# EAGLE library part NJM064M (library NJM064M)
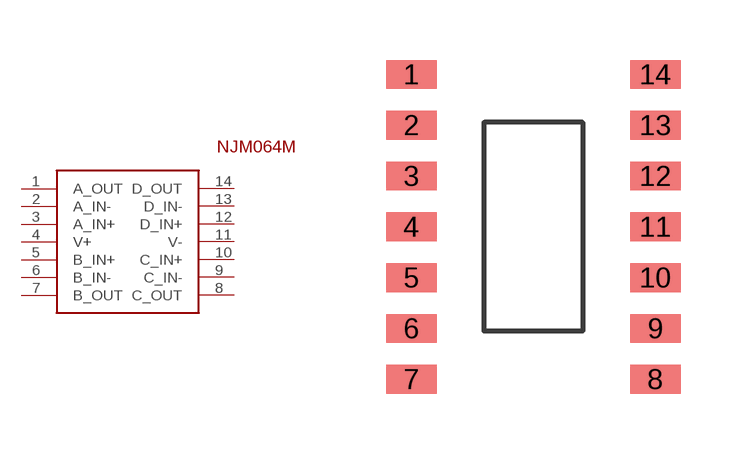
[diagram p0: symbol with the pads of NJM064M; footprint NJM064M]

Designator prefix -

## NJM064M  [NJM064M]
1  A_OUT
2  A_IN-
3  A_IN+
4  V+
5  B_IN+
6  B_IN-
7  B_OUT
8  C_OUT
9  C_IN-
10  C_IN+
11  V-
12  D_IN+
13  D_IN-
14  D_OUT

## Footprint NJM064M (pad centres in mm)
smd 1.27 x 0.72: 1 -3.05,3.81; 2 -3.05,2.54; 3 -3.05,1.27; 4 -3.05,0; 5 -3.05,-1.27; 6 -3.05,-2.54; 7 -3.05,-3.81; 8 3.05,-3.81; 9 3.05,-2.54; 10 3.05,-1.27; 11 3.05,0; 12 3.05,1.27; 13 3.05,2.54; 14 3.05,3.81